# Altium schematic symbol library ARCOM_Memory.SchLib: 13 symbols
Pins are listed as number, name and electrical type; pins without a type are passive.

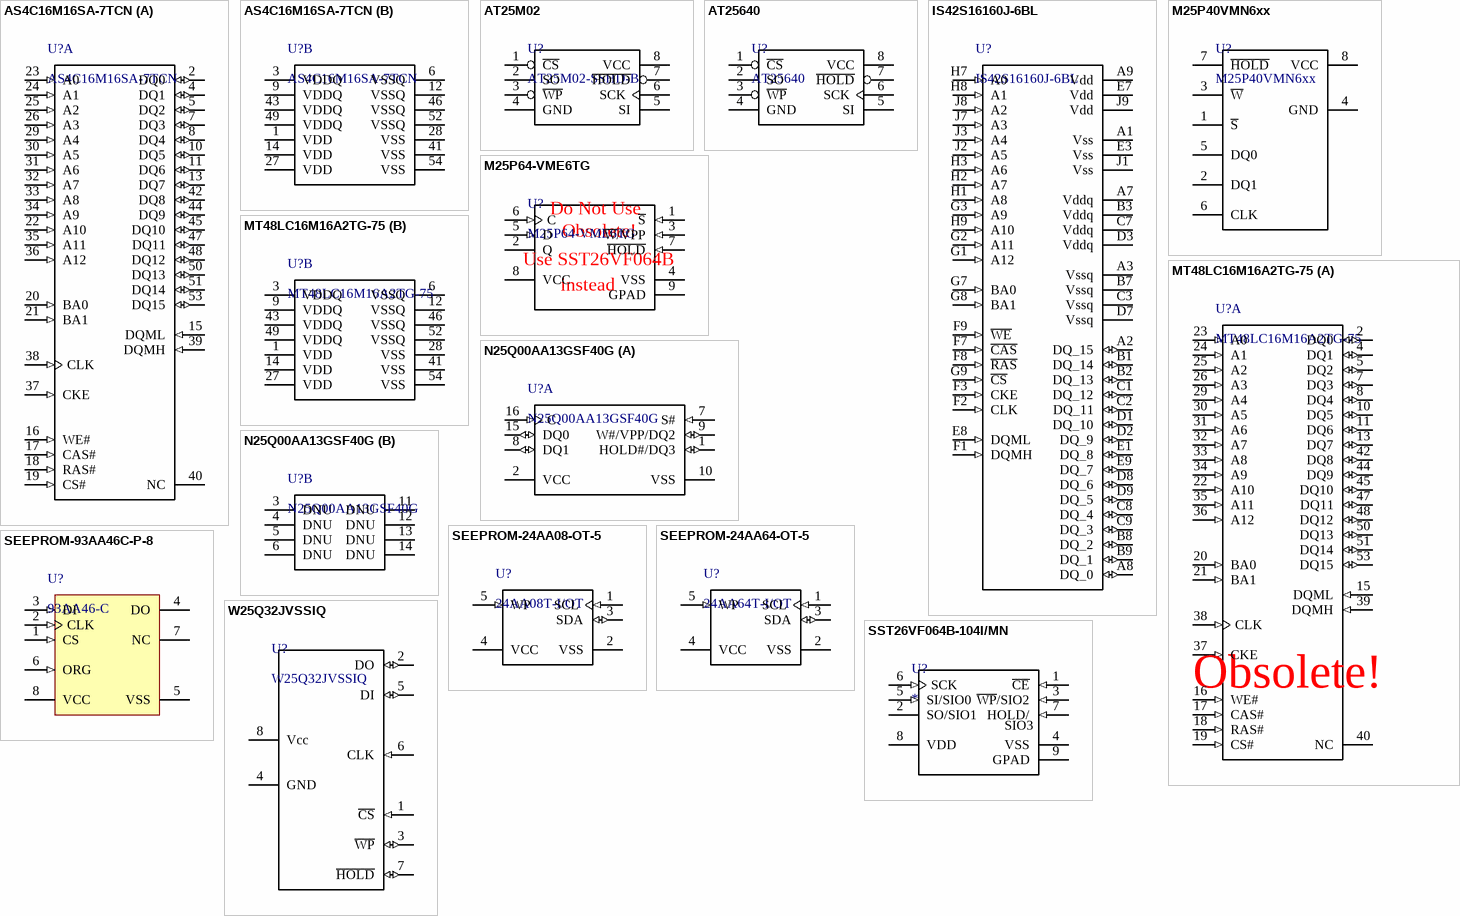
[diagram p0: symbols AS4C16M16SA-7TCN to W25Q32JVSSIQ]

## AS4C16M16SA-7TCN
designator U?
256 Mbit SDR SDRAM; Manufacturer: Alliance Memory; ComponentLink1Description: Manufacturer; ComponentLink1URL: http://www.alliancememory.com; ComponentLink2Description: Datasheet; ComponentLink2URL: http://www.alliancememory.com/pdf/dram/256M-AS4C16M16SA.pdf; Manufacturer P/N: AS4C16M16SA-7TCN; Part: AS4C16M16SA-7TCN
footprint MICT-TG-54_N (SOP, 54-Leads, Body 22.22x10.16mm, Pitch 0.8mm, IPC Medium Density)
part A pins: 2 DQ0 (io) "Data bus for x16 (pins 4, 7, 10, 13, 15, 42, 45, 48, and 51 are NC for x8; and pins 2, 4, 7, 8, 10, 13, 15, 42, 45, 47, 48, 51, and 53 are NC for x4).", 4 DQ1 (io) "Data bus for x16 (pins 4, 7, 10, 13, 15, 42, 45, 48, and 51 are NC for x8; and pins 2, 4, 7, 8, 10, 13, 15, 42, 45, 47, 48, 51, and 53 are NC for x4).", 5 DQ2 (io) "Data bus for x16 (pins 4, 7, 10, 13, 15, 42, 45, 48, and 51 are NC for x8; and pins 2, 4, 7, 8, 10, 13, 15, 42, 45, 47, 48, 51, and 53 are NC for x4).", 7 DQ3 (io) "Data bus for x16 (pins 4, 7, 10, 13, 15, 42, 45, 48, and 51 are NC for x8; and pins 2, 4, 7, 8, 10, 13, 15, 42, 45, 47, 48, 51, and 53 are NC for x4).", 8 DQ4 (io) "Data bus for x16 (pins 4, 7, 10, 13, 15, 42, 45, 48, and 51 are NC for x8; and pins 2, 4, 7, 8, 10, 13, 15, 42, 45, 47, 48, 51, and 53 are NC for x4).", 10 DQ5 (io) "Data bus for x16 (pins 4, 7, 10, 13, 15, 42, 45, 48, and 51 are NC for x8; and pins 2, 4, 7, 8, 10, 13, 15, 42, 45, 47, 48, 51, and 53 are NC for x4).", 11 DQ6 (io) "Data bus for x16 (pins 4, 7, 10, 13, 15, 42, 45, 48, and 51 are NC for x8; and pins 2, 4, 7, 8, 10, 13, 15, 42, 45, 47, 48, 51, and 53 are NC for x4).", 13 DQ7 (io) "Data bus for x16 (pins 4, 7, 10, 13, 15, 42, 45, 48, and 51 are NC for x8; and pins 2, 4, 7, 8, 10, 13, 15, 42, 45, 47, 48, 51, and 53 are NC for x4).", 15 DQML (in) "Onthe x16, DQML corresponds to DQ[7:0], and DQMH corresponds to DQ[15:8]. DQML andDQMH are considered same state when referenced as DQM", 16 WE# (in) "define the command being entered", 17 CAS# (in) "define the command being entered", 18 RAS# (in) "define the command being entered", 19 CS# (in) "CS# enables (registered LOW) and disables (registered HIGH) the command decoder. All commands are masked when CS# is registered HIGH, but READ/WRITE bursts already in progress will continue, and DQM operation will retain its (See Datasheet)", 20 BA0 (in) "BA[1:0] define to which bank the ACTIVE, READ, WRITE, or PRECHARGE command is being applied.", 21 BA1 (in) "BA[1:0] define to which bank the ACTIVE, READ, WRITE, or PRECHARGE command is being applied.", 22 A10 (in) "A[12:0] are sampled during the ACTIVE command (row address A[12:0]) andREAD or WRITE command (column address A[9:0], A11, and A12 for x4; A[9:0] and A11 for x8; A[9:0] for x16; with A10 defining auto precharge) to select one (See Datasheet)", 23 A0 (in) "A[12:0] are sampled during the ACTIVE command (row address A[12:0]) andREAD or WRITE command (column address A[9:0], A11, and A12 for x4; A[9:0] and A11 for x8; A[9:0] for x16; with A10 defining auto precharge) to select one (See Datasheet)", 24 A1 (in) "A[12:0] are sampled during the ACTIVE command (row address A[12:0]) andREAD or WRITE command (column address A[9:0], A11, and A12 for x4; A[9:0] and A11 for x8; A[9:0] for x16; with A10 defining auto precharge) to select one (See Datasheet)", 25 A2 (in) "A[12:0] are sampled during the ACTIVE command (row address A[12:0]) andREAD or WRITE command (column address A[9:0], A11, and A12 for x4; A[9:0] and A11 for x8; A[9:0] for x16; with A10 defining auto precharge) to select one (See Datasheet)", 26 A3 (in) "A[12:0] are sampled during the ACTIVE command (row address A[12:0]) andREAD or WRITE command (column address A[9:0], A11, and A12 for x4; A[9:0] and A11 for x8; A[9:0] for x16; with A10 defining auto precharge) to select one (See Datasheet)", 29 A4 (in) "A[12:0] are sampled during the ACTIVE command (row address A[12:0]) andREAD or WRITE command (column address A[9:0], A11, and A12 for x4; A[9:0] and A11 for x8; A[9:0] for x16; with A10 defining auto precharge) to select one (See Datasheet)", 30 A5 (in) "A[12:0] are sampled during the ACTIVE command (row address A[12:0]) andREAD or WRITE command (column address A[9:0], A11, and A12 for x4; A[9:0] and A11 for x8; A[9:0] for x16; with A10 defining auto precharge) to select one (See Datasheet)", 31 A6 (in) "A[12:0] are sampled during the ACTIVE command (row address A[12:0]) andREAD or WRITE command (column address A[9:0], A11, and A12 for x4; A[9:0] and A11 for x8; A[9:0] for x16; with A10 defining auto precharge) to select one (See Datasheet)", 32 A7 (in) "A[12:0] are sampled during the ACTIVE command (row address A[12:0]) andREAD or WRITE command (column address A[9:0], A11, and A12 for x4; A[9:0] and A11 for x8; A[9:0] for x16; with A10 defining auto precharge) to select one (See Datasheet)", 33 A8 (in) "A[12:0] are sampled during the ACTIVE command (row address A[12:0]) andREAD or WRITE command (column address A[9:0], A11, and A12 for x4; A[9:0] and A11 for x8; A[9:0] for x16; with A10 defining auto precharge) to select one (See Datasheet)", 34 A9 (in) "A[12:0] are sampled during the ACTIVE command (row address A[12:0]) andREAD or WRITE command (column address A[9:0], A11, and A12 for x4; A[9:0] and A11 for x8; A[9:0] for x16; with A10 defining auto precharge) to select one (See Datasheet)", 35 A11 (in) "A[12:0] are sampled during the ACTIVE command (row address A[12:0]) andREAD or WRITE command (column address A[9:0], A11, and A12 for x4; A[9:0] and A11 for x8; A[9:0] for x16; with A10 defining auto precharge) to select one (See Datasheet)", 36 A12 (in) "A[12:0] are sampled during the ACTIVE command (row address A[12:0]) andREAD or WRITE command (column address A[9:0], A11, and A12 for x4; A[9:0] and A11 for x8; A[9:0] for x16; with A10 defining auto precharge) to select one (See Datasheet)", 37 CKE (in) "CKE activates (HIGH) and deactivates (LOW) the CLK signal. Deactivating theclock provides precharge power-down and SELF REFRESH operation (all banks idle), activepower-down (row active in any bank), or CLOCK SUSPEND (See Datasheet)", 38 CLK (in) "CLK is driven by the system clock. All SDRAM input signals are sampled on the positive edge of CLK. CLK also increments the internal burst counter and controls the output registers", 39 DQMH (in) "Onthe x16, DQML corresponds to DQ[7:0], and DQMH corresponds to DQ[15:8]. DQML andDQMH are considered same state when referenced as DQM", 40 NC "These should be left unconnected", 42 DQ8 (io) "Data bus for x16 (pins 4, 7, 10, 13, 15, 42, 45, 48, and 51 are NC for x8; and pins 2, 4, 7, 8, 10, 13, 15, 42, 45, 47, 48, 51, and 53 are NC for x4).", 44 DQ9 (io) "Data bus for x16 (pins 4, 7, 10, 13, 15, 42, 45, 48, and 51 are NC for x8; and pins 2, 4, 7, 8, 10, 13, 15, 42, 45, 47, 48, 51, and 53 are NC for x4).", 45 DQ10 (io) "Data bus for x16 (pins 4, 7, 10, 13, 15, 42, 45, 48, and 51 are NC for x8; and pins 2, 4, 7, 8, 10, 13, 15, 42, 45, 47, 48, 51, and 53 are NC for x4).", 47 DQ11 (io) "Data bus for x16 (pins 4, 7, 10, 13, 15, 42, 45, 48, and 51 are NC for x8; and pins 2, 4, 7, 8, 10, 13, 15, 42, 45, 47, 48, 51, and 53 are NC for x4).", 48 DQ12 (io) "Data bus for x16 (pins 4, 7, 10, 13, 15, 42, 45, 48, and 51 are NC for x8; and pins 2, 4, 7, 8, 10, 13, 15, 42, 45, 47, 48, 51, and 53 are NC for x4).", 50 DQ13 (io) "Data bus for x16 (pins 4, 7, 10, 13, 15, 42, 45, 48, and 51 are NC for x8; and pins 2, 4, 7, 8, 10, 13, 15, 42, 45, 47, 48, 51, and 53 are NC for x4).", 51 DQ14 (io) "Data bus for x16 (pins 4, 7, 10, 13, 15, 42, 45, 48, and 51 are NC for x8; and pins 2, 4, 7, 8, 10, 13, 15, 42, 45, 47, 48, 51, and 53 are NC for x4).", 53 DQ15 (io) "Data bus for x16 (pins 4, 7, 10, 13, 15, 42, 45, 48, and 51 are NC for x8; and pins 2, 4, 7, 8, 10, 13, 15, 42, 45, 47, 48, 51, and 53 are NC for x4)."
part B pins: 1 VDD (power) "+3.3V +/-0.3V.", 3 VDDQ (power) "DQ power to the die for improved noise immunity", 6 VSSQ (power) "DQ ground to the die for improved noise immunity", 9 VDDQ (power) "DQ power to the die for improved noise immunity", 12 VSSQ (power) "DQ ground to the die for improved noise immunity", 14 VDD (power) "+3.3V +/-0.3V.", 27 VDD (power) "+3.3V +/-0.3V.", 28 VSS (power) "Ground", 41 VSS (power) "Ground", 43 VDDQ (power) "DQ power to the die for improved noise immunity", 46 VSSQ (power) "DQ ground to the die for improved noise immunity", 49 VDDQ (power) "DQ power to the die for improved noise immunity", 52 VSSQ (power) "DQ ground to the die for improved noise immunity", 54 VSS (power) "Ground"

## AT25M02
designator U?, comment AT25M02-SSHD-B
SPI Serial EEPROM 2-Mbit (262144 x 8); Manufacturer: Microchip; ComponentLink1URL: *; ComponentLink2Description: *; ComponentLink2URL: *; Family: Chip; Manufacturer P/N: AT25M02-SSHD-B; Part: AT25M02-SSHD-B
footprint MCHP-SOIC-SN8_N (SOIC, 8-Leads, Body 4.9x3.9mm, Pitch 1.27mm, IPC Medium Density)
pins: 1 ~{CS}, 2 SO, 3 ~{WP}, 4 GND, 5 SI, 6 SCK, 7 ~{HOLD}, 8 VCC

## AT25640
designator U?
SPI Serial EEPROM 64K; ComponentLink1Description: *; ComponentLink1URL: *; ComponentLink2Description: *; ComponentLink2URL: *; Family: *; Manufacturer: *; Manufacturer P/N: *; Part: *
pins: 1 ~{CS}, 2 SO, 3 ~{WP}, 4 GND, 5 SI, 6 SCK, 7 ~{HOLD}, 8 VCC

## IS42S16160J-6BL
designator U?
256Mb Synchronous DRAM; Manufacturer: ISSI, Inc.; Manufacturer P/N: IS42S16160J-6BL; ComponentLink1Description: Manufacturer; ComponentLink1URL: www.issi.com; ComponentLink2Description: Datasheet; ComponentLink2URL: https://www.issi.com/WW/pdf/42-45S83200J-16160J.pdf; Family: Chip; Part: IS42S16160J-6BL
footprint 54L TF-BGA_IS42S16160D-6BL(Primary)
pins: A1 Vss (power) "BA[1:0] define to which bank the ACTIVE, READ, WRITE, or PRECHARGE command is being applied.", A2 DQ_15 (io) "BA[1:0] define to which bank the ACTIVE, READ, WRITE, or PRECHARGE command is being applied.", A3 Vssq (power) "BA[1:0] define to which bank the ACTIVE, READ, WRITE, or PRECHARGE command is being applied.", A7 Vddq (power) "BA[1:0] define to which bank the ACTIVE, READ, WRITE, or PRECHARGE command is being applied.", A8 DQ_0 (io) "BA[1:0] define to which bank the ACTIVE, READ, WRITE, or PRECHARGE command is being applied.", A9 Vdd (power) "BA[1:0] define to which bank the ACTIVE, READ, WRITE, or PRECHARGE command is being applied.", B1 DQ_14 (io) "BA[1:0] define to which bank the ACTIVE, READ, WRITE, or PRECHARGE command is being applied.", B2 DQ_13 (io) "BA[1:0] define to which bank the ACTIVE, READ, WRITE, or PRECHARGE command is being applied.", B3 Vddq (power) "BA[1:0] define to which bank the ACTIVE, READ, WRITE, or PRECHARGE command is being applied.", B7 Vssq (power) "BA[1:0] define to which bank the ACTIVE, READ, WRITE, or PRECHARGE command is being applied.", B8 DQ_2 (io) "BA[1:0] define to which bank the ACTIVE, READ, WRITE, or PRECHARGE command is being applied.", B9 DQ_1 (io) "BA[1:0] define to which bank the ACTIVE, READ, WRITE, or PRECHARGE command is being applied.", C1 DQ_12 (io) "BA[1:0] define to which bank the ACTIVE, READ, WRITE, or PRECHARGE command is being applied.", C2 DQ_11 (io) "BA[1:0] define to which bank the ACTIVE, READ, WRITE, or PRECHARGE command is being applied.", C3 Vssq (power) "BA[1:0] define to which bank the ACTIVE, READ, WRITE, or PRECHARGE command is being applied.", C7 Vddq (power) "BA[1:0] define to which bank the ACTIVE, READ, WRITE, or PRECHARGE command is being applied.", C8 DQ_4 (io) "BA[1:0] define to which bank the ACTIVE, READ, WRITE, or PRECHARGE command is being applied.", C9 DQ_3 (io) "BA[1:0] define to which bank the ACTIVE, READ, WRITE, or PRECHARGE command is being applied.", D1 DQ_10 (io) "BA[1:0] define to which bank the ACTIVE, READ, WRITE, or PRECHARGE command is being applied.", D2 DQ_9 (io) "BA[1:0] define to which bank the ACTIVE, READ, WRITE, or PRECHARGE command is being applied.", D3 Vddq (power) "BA[1:0] define to which bank the ACTIVE, READ, WRITE, or PRECHARGE command is being applied.", D7 Vssq (power) "BA[1:0] define to which bank the ACTIVE, READ, WRITE, or PRECHARGE command is being applied.", D8 DQ_6 (io) "BA[1:0] define to which bank the ACTIVE, READ, WRITE, or PRECHARGE command is being applied.", D9 DQ_5 (io) "BA[1:0] define to which bank the ACTIVE, READ, WRITE, or PRECHARGE command is being applied.", E1 DQ_8 (io) "BA[1:0] define to which bank the ACTIVE, READ, WRITE, or PRECHARGE command is being applied.", E3 Vss (power) "BA[1:0] define to which bank the ACTIVE, READ, WRITE, or PRECHARGE command is being applied.", E7 Vdd (power) "BA[1:0] define to which bank the ACTIVE, READ, WRITE, or PRECHARGE command is being applied.", E8 DQML (in) "BA[1:0] define to which bank the ACTIVE, READ, WRITE, or PRECHARGE command is being applied.", E9 DQ_7 (io) "BA[1:0] define to which bank the ACTIVE, READ, WRITE, or PRECHARGE command is being applied.", F1 DQMH (in) "BA[1:0] define to which bank the ACTIVE, READ, WRITE, or PRECHARGE command is being applied.", F2 CLK (in) "BA[1:0] define to which bank the ACTIVE, READ, WRITE, or PRECHARGE command is being applied.", F3 CKE (in) "BA[1:0] define to which bank the ACTIVE, READ, WRITE, or PRECHARGE command is being applied.", F7 ~{CAS} (in) "define the command being entered", F8 ~{RAS} (in) "define the command being entered", F9 ~{WE} (in) "define the command being entered", G1 A12 (in) "A[12:0] are sampled during the ACTIVE command (row address A[12:0]) andREAD or WRITE command (column address A[9:0], A11, and A12 for x4; A[9:0] and A11 for x8; A[9:0] for x16; with A10 defining auto precharge) to select one (See Datasheet)", G2 A11 (in) "A[12:0] are sampled during the ACTIVE command (row address A[12:0]) andREAD or WRITE command (column address A[9:0], A11, and A12 for x4; A[9:0] and A11 for x8; A[9:0] for x16; with A10 defining auto precharge) to select one (See Datasheet)", G3 A9 (in) "A[12:0] are sampled during the ACTIVE command (row address A[12:0]) andREAD or WRITE command (column address A[9:0], A11, and A12 for x4; A[9:0] and A11 for x8; A[9:0] for x16; with A10 defining auto precharge) to select one (See Datasheet)", G7 BA0 (in) "BA[1:0] define to which bank the ACTIVE, READ, WRITE, or PRECHARGE command is being applied.", G8 BA1 (in) "BA[1:0] define to which bank the ACTIVE, READ, WRITE, or PRECHARGE command is being applied.", G9 ~{CS} (in) "CS# enables (registered LOW) and disables (registered HIGH) the command decoder. All commands are masked when CS# is registered HIGH, but READ/WRITE bursts already in progress will continue, and DQM operation will retain its (See Datasheet)", H1 A8 (in) "A[12:0] are sampled during the ACTIVE command (row address A[12:0]) andREAD or WRITE command (column address A[9:0], A11, and A12 for x4; A[9:0] and A11 for x8; A[9:0] for x16; with A10 defining auto precharge) to select one (See Datasheet)", H2 A7 (in) "A[12:0] are sampled during the ACTIVE command (row address A[12:0]) andREAD or WRITE command (column address A[9:0], A11, and A12 for x4; A[9:0] and A11 for x8; A[9:0] for x16; with A10 defining auto precharge) to select one (See Datasheet)", H3 A6 (in) "A[12:0] are sampled during the ACTIVE command (row address A[12:0]) andREAD or WRITE command (column address A[9:0], A11, and A12 for x4; A[9:0] and A11 for x8; A[9:0] for x16; with A10 defining auto precharge) to select one (See Datasheet)", H7 A0 (in) "A[12:0] are sampled during the ACTIVE command (row address A[12:0]) andREAD or WRITE command (column address A[9:0], A11, and A12 for x4; A[9:0] and A11 for x8; A[9:0] for x16; with A10 defining auto precharge) to select one (See Datasheet)", H8 A1 (in) "A[12:0] are sampled during the ACTIVE command (row address A[12:0]) andREAD or WRITE command (column address A[9:0], A11, and A12 for x4; A[9:0] and A11 for x8; A[9:0] for x16; with A10 defining auto precharge) to select one (See Datasheet)", H9 A10 (in) "A[12:0] are sampled during the ACTIVE command (row address A[12:0]) andREAD or WRITE command (column address A[9:0], A11, and A12 for x4; A[9:0] and A11 for x8; A[9:0] for x16; with A10 defining auto precharge) to select one (See Datasheet)", J1 Vss (power) "BA[1:0] define to which bank the ACTIVE, READ, WRITE, or PRECHARGE command is being applied.", J2 A5 (in) "A[12:0] are sampled during the ACTIVE command (row address A[12:0]) andREAD or WRITE command (column address A[9:0], A11, and A12 for x4; A[9:0] and A11 for x8; A[9:0] for x16; with A10 defining auto precharge) to select one (See Datasheet)", J3 A4 (in) "A[12:0] are sampled during the ACTIVE command (row address A[12:0]) andREAD or WRITE command (column address A[9:0], A11, and A12 for x4; A[9:0] and A11 for x8; A[9:0] for x16; with A10 defining auto precharge) to select one (See Datasheet)", J7 A3 (in) "A[12:0] are sampled during the ACTIVE command (row address A[12:0]) andREAD or WRITE command (column address A[9:0], A11, and A12 for x4; A[9:0] and A11 for x8; A[9:0] for x16; with A10 defining auto precharge) to select one (See Datasheet)", J8 A2 (in) "A[12:0] are sampled during the ACTIVE command (row address A[12:0]) andREAD or WRITE command (column address A[9:0], A11, and A12 for x4; A[9:0] and A11 for x8; A[9:0] for x16; with A10 defining auto precharge) to select one (See Datasheet)", J9 Vdd (power) "BA[1:0] define to which bank the ACTIVE, READ, WRITE, or PRECHARGE command is being applied."

## M25P40VMN6xx
designator U?
4 Mbit, Low Voltage, Serial Flash Memory with 40 MHz or 50 MHz SPI Bus Interface; Manufacturer: Micron Technology, Inc.; .Checked SCH: new; ComponentLink1Description: Manufacturer; ComponentLink1URL: *; ComponentLink2Description: Datasheet; ComponentLink2URL: *; Manufacturer P/N: M25P40VMN6xx; Part: M25P40VMN6xx; type: chip; .Checked PCB: new
footprint FLASH_8pin
pins: 1 ~{S}, 2 DQ1, 3 ~{W}, 4 GND, 5 DQ0, 6 CLK, 7 ~{HOLD}, 8 VCC

## M25P64-VME6TG
designator U?
Obsolete! Change to SST26VF064. 64 Mbit, low voltage, Serial Flash memory  with 75 MHz SPI bus interface; Manufacturer: Micron Technology, Inc.; ComponentLink1Description: Manufacturer; ComponentLink1URL: https://www.micron.com; ComponentLink2Description: Datasheet; ComponentLink2URL: http://www.micron.com/~/media/Documents/Products/Data%20Sheet/NOR%20Flash/Serial%20NOR/M25P/M25P64.pdf; Manufacturer P/N: M25P64-VME6TG; Part: M25P64-VME6TG
footprint VDFPN8_2
pins: 1 ~{S} (in) "When this input signal is High, the device is deselected and Serial Data Output (Q) is at highimpedance. Unless an internal Program, Erase or Write Status Register cycle is in progress,the device will be in the Standby Power (See Datasheet)", 2 Q (hiz) "This output signal is used to transfer data serially out of the device. Data is shifted out on the  falling edge of Serial Clock (C).", 3 ~{W}/VPP (in) "Write Protect/Enhanced Program supply voltage (W\/VPP) W\/VPP is both a control input and a power supply pin. The two functions are selected by the voltage range applied to the pin. If the W\/VPP input is kept in a low (See Datasheet)", 4 VSS (power) "VSS is the reference for the VCC supply voltage.", 5 D (in) "This input signal is used to transfer data serially into the device. It receives instructions,addresses, and the data to be programmed. Values are latched on the rising edge of SerialClock (C).", 6 C (in) "This input signal provides the timing of the serial interface. Instructions, addresses, or datapresent at Serial Data Input (D) are latched on the rising edge of Serial Clock (C). Data onSerial Data Output (Q) changes after (See Datasheet)", 7 ~{HOLD} (in) "The Hold (H\O\L\D\) signal is used to pause any serial communications with the device withoutdeselecting the device.During the Hold condition, the Serial Data Output (Q) is high impedance, and Serial DataInput (D) and Serial (See Datasheet)", 8 VCC (power) "VCC is the supply voltage.", 9 GPAD (power) "VSS is the reference for the VCC supply voltage."
text: Do Not Use; Obsolete!; Use SST26VF064B; instead

## MT48LC16M16A2TG-75
designator U?
Obsolete! Change to AS4C16M16SA-7TCN; Manufacturer: Micron Technology, Inc.; ComponentLink1Description: Manufacturer; ComponentLink1URL: http://www.micron.com/; ComponentLink2Description: Datasheet; ComponentLink2URL: http://www.micron.com/~/media/Documents/Products/Data%20Sheet/DRAM/256Mb_sdr.pdf; Manufacturer P/N: MT48LC16M16A2TG-75; Part: MT48LC16M16A2TG-75
footprint MICT-TG-54_N (SOP, 54-Leads, Body 22.22x10.16mm, Pitch 0.8mm, IPC Medium Density)
part A pins: 2 DQ0 (io) "Data bus for x16 (pins 4, 7, 10, 13, 15, 42, 45, 48, and 51 are NC for x8; and pins 2, 4, 7, 8, 10, 13, 15, 42, 45, 47, 48, 51, and 53 are NC for x4).", 4 DQ1 (io) "Data bus for x16 (pins 4, 7, 10, 13, 15, 42, 45, 48, and 51 are NC for x8; and pins 2, 4, 7, 8, 10, 13, 15, 42, 45, 47, 48, 51, and 53 are NC for x4).", 5 DQ2 (io) "Data bus for x16 (pins 4, 7, 10, 13, 15, 42, 45, 48, and 51 are NC for x8; and pins 2, 4, 7, 8, 10, 13, 15, 42, 45, 47, 48, 51, and 53 are NC for x4).", 7 DQ3 (io) "Data bus for x16 (pins 4, 7, 10, 13, 15, 42, 45, 48, and 51 are NC for x8; and pins 2, 4, 7, 8, 10, 13, 15, 42, 45, 47, 48, 51, and 53 are NC for x4).", 8 DQ4 (io) "Data bus for x16 (pins 4, 7, 10, 13, 15, 42, 45, 48, and 51 are NC for x8; and pins 2, 4, 7, 8, 10, 13, 15, 42, 45, 47, 48, 51, and 53 are NC for x4).", 10 DQ5 (io) "Data bus for x16 (pins 4, 7, 10, 13, 15, 42, 45, 48, and 51 are NC for x8; and pins 2, 4, 7, 8, 10, 13, 15, 42, 45, 47, 48, 51, and 53 are NC for x4).", 11 DQ6 (io) "Data bus for x16 (pins 4, 7, 10, 13, 15, 42, 45, 48, and 51 are NC for x8; and pins 2, 4, 7, 8, 10, 13, 15, 42, 45, 47, 48, 51, and 53 are NC for x4).", 13 DQ7 (io) "Data bus for x16 (pins 4, 7, 10, 13, 15, 42, 45, 48, and 51 are NC for x8; and pins 2, 4, 7, 8, 10, 13, 15, 42, 45, 47, 48, 51, and 53 are NC for x4).", 15 DQML (in) "Onthe x16, DQML corresponds to DQ[7:0], and DQMH corresponds to DQ[15:8]. DQML andDQMH are considered same state when referenced as DQM", 16 WE# (in) "define the command being entered", 17 CAS# (in) "define the command being entered", 18 RAS# (in) "define the command being entered", 19 CS# (in) "CS# enables (registered LOW) and disables (registered HIGH) the command decoder. All commands are masked when CS# is registered HIGH, but READ/WRITE bursts already in progress will continue, and DQM operation will retain its (See Datasheet)", 20 BA0 (in) "BA[1:0] define to which bank the ACTIVE, READ, WRITE, or PRECHARGE command is being applied.", 21 BA1 (in) "BA[1:0] define to which bank the ACTIVE, READ, WRITE, or PRECHARGE command is being applied.", 22 A10 (in) "A[12:0] are sampled during the ACTIVE command (row address A[12:0]) andREAD or WRITE command (column address A[9:0], A11, and A12 for x4; A[9:0] and A11 for x8; A[9:0] for x16; with A10 defining auto precharge) to select one (See Datasheet)", 23 A0 (in) "A[12:0] are sampled during the ACTIVE command (row address A[12:0]) andREAD or WRITE command (column address A[9:0], A11, and A12 for x4; A[9:0] and A11 for x8; A[9:0] for x16; with A10 defining auto precharge) to select one (See Datasheet)", 24 A1 (in) "A[12:0] are sampled during the ACTIVE command (row address A[12:0]) andREAD or WRITE command (column address A[9:0], A11, and A12 for x4; A[9:0] and A11 for x8; A[9:0] for x16; with A10 defining auto precharge) to select one (See Datasheet)", 25 A2 (in) "A[12:0] are sampled during the ACTIVE command (row address A[12:0]) andREAD or WRITE command (column address A[9:0], A11, and A12 for x4; A[9:0] and A11 for x8; A[9:0] for x16; with A10 defining auto precharge) to select one (See Datasheet)", 26 A3 (in) "A[12:0] are sampled during the ACTIVE command (row address A[12:0]) andREAD or WRITE command (column address A[9:0], A11, and A12 for x4; A[9:0] and A11 for x8; A[9:0] for x16; with A10 defining auto precharge) to select one (See Datasheet)", 29 A4 (in) "A[12:0] are sampled during the ACTIVE command (row address A[12:0]) andREAD or WRITE command (column address A[9:0], A11, and A12 for x4; A[9:0] and A11 for x8; A[9:0] for x16; with A10 defining auto precharge) to select one (See Datasheet)", 30 A5 (in) "A[12:0] are sampled during the ACTIVE command (row address A[12:0]) andREAD or WRITE command (column address A[9:0], A11, and A12 for x4; A[9:0] and A11 for x8; A[9:0] for x16; with A10 defining auto precharge) to select one (See Datasheet)", 31 A6 (in) "A[12:0] are sampled during the ACTIVE command (row address A[12:0]) andREAD or WRITE command (column address A[9:0], A11, and A12 for x4; A[9:0] and A11 for x8; A[9:0] for x16; with A10 defining auto precharge) to select one (See Datasheet)", 32 A7 (in) "A[12:0] are sampled during the ACTIVE command (row address A[12:0]) andREAD or WRITE command (column address A[9:0], A11, and A12 for x4; A[9:0] and A11 for x8; A[9:0] for x16; with A10 defining auto precharge) to select one (See Datasheet)", 33 A8 (in) "A[12:0] are sampled during the ACTIVE command (row address A[12:0]) andREAD or WRITE command (column address A[9:0], A11, and A12 for x4; A[9:0] and A11 for x8; A[9:0] for x16; with A10 defining auto precharge) to select one (See Datasheet)", 34 A9 (in) "A[12:0] are sampled during the ACTIVE command (row address A[12:0]) andREAD or WRITE command (column address A[9:0], A11, and A12 for x4; A[9:0] and A11 for x8; A[9:0] for x16; with A10 defining auto precharge) to select one (See Datasheet)", 35 A11 (in) "A[12:0] are sampled during the ACTIVE command (row address A[12:0]) andREAD or WRITE command (column address A[9:0], A11, and A12 for x4; A[9:0] and A11 for x8; A[9:0] for x16; with A10 defining auto precharge) to select one (See Datasheet)", 36 A12 (in) "A[12:0] are sampled during the ACTIVE command (row address A[12:0]) andREAD or WRITE command (column address A[9:0], A11, and A12 for x4; A[9:0] and A11 for x8; A[9:0] for x16; with A10 defining auto precharge) to select one (See Datasheet)", 37 CKE (in) "CKE activates (HIGH) and deactivates (LOW) the CLK signal. Deactivating theclock provides precharge power-down and SELF REFRESH operation (all banks idle), activepower-down (row active in any bank), or CLOCK SUSPEND (See Datasheet)", 38 CLK (in) "CLK is driven by the system clock. All SDRAM input signals are sampled on the positive edge of CLK. CLK also increments the internal burst counter and controls the output registers", 39 DQMH (in) "Onthe x16, DQML corresponds to DQ[7:0], and DQMH corresponds to DQ[15:8]. DQML andDQMH are considered same state when referenced as DQM", 40 NC "These should be left unconnected", 42 DQ8 (io) "Data bus for x16 (pins 4, 7, 10, 13, 15, 42, 45, 48, and 51 are NC for x8; and pins 2, 4, 7, 8, 10, 13, 15, 42, 45, 47, 48, 51, and 53 are NC for x4).", 44 DQ9 (io) "Data bus for x16 (pins 4, 7, 10, 13, 15, 42, 45, 48, and 51 are NC for x8; and pins 2, 4, 7, 8, 10, 13, 15, 42, 45, 47, 48, 51, and 53 are NC for x4).", 45 DQ10 (io) "Data bus for x16 (pins 4, 7, 10, 13, 15, 42, 45, 48, and 51 are NC for x8; and pins 2, 4, 7, 8, 10, 13, 15, 42, 45, 47, 48, 51, and 53 are NC for x4).", 47 DQ11 (io) "Data bus for x16 (pins 4, 7, 10, 13, 15, 42, 45, 48, and 51 are NC for x8; and pins 2, 4, 7, 8, 10, 13, 15, 42, 45, 47, 48, 51, and 53 are NC for x4).", 48 DQ12 (io) "Data bus for x16 (pins 4, 7, 10, 13, 15, 42, 45, 48, and 51 are NC for x8; and pins 2, 4, 7, 8, 10, 13, 15, 42, 45, 47, 48, 51, and 53 are NC for x4).", 50 DQ13 (io) "Data bus for x16 (pins 4, 7, 10, 13, 15, 42, 45, 48, and 51 are NC for x8; and pins 2, 4, 7, 8, 10, 13, 15, 42, 45, 47, 48, 51, and 53 are NC for x4).", 51 DQ14 (io) "Data bus for x16 (pins 4, 7, 10, 13, 15, 42, 45, 48, and 51 are NC for x8; and pins 2, 4, 7, 8, 10, 13, 15, 42, 45, 47, 48, 51, and 53 are NC for x4).", 53 DQ15 (io) "Data bus for x16 (pins 4, 7, 10, 13, 15, 42, 45, 48, and 51 are NC for x8; and pins 2, 4, 7, 8, 10, 13, 15, 42, 45, 47, 48, 51, and 53 are NC for x4)."
part B pins: 1 VDD (power) "+3.3V +/-0.3V.", 3 VDDQ (power) "DQ power to the die for improved noise immunity", 6 VSSQ (power) "DQ ground to the die for improved noise immunity", 9 VDDQ (power) "DQ power to the die for improved noise immunity", 12 VSSQ (power) "DQ ground to the die for improved noise immunity", 14 VDD (power) "+3.3V +/-0.3V.", 27 VDD (power) "+3.3V +/-0.3V.", 28 VSS (power) "Ground", 41 VSS (power) "Ground", 43 VDDQ (power) "DQ power to the die for improved noise immunity", 46 VSSQ (power) "DQ ground to the die for improved noise immunity", 49 VDDQ (power) "DQ power to the die for improved noise immunity", 52 VSSQ (power) "DQ ground to the die for improved noise immunity", 54 VSS (power) "Ground"
part A text: Obsolete!

## N25Q00AA13GSF40G
designator U?
1Gb, 3V, Multiple I/O Serial NOR Flash Memory; Manufacturer: Micron; ComponentLink1Description: *; ComponentLink1URL: *; ComponentLink2Description: Datasheet; ComponentLink2URL: http://www.micron.com/~/media/Documents/Products/Data%20Sheet/NOR%20Flash/Serial%20NOR/N25Q/n25q_1gb_3v_65nm.pdf; Manufacturer P/N: N25Q00AA13GSF40G; Family: *; Part: N25Q00AA13GSF40G
footprint MICT-SF-16_N (SOIC, 16-Leads, Body 10.3x7.5mm, Pitch 1.27mm, IPC Medium Density)
part A pins: 1 HOLD#/DQ3 (io) "HOLD: Pauses any serial communications with the device without deselecting the device. DQ1 (output) is High-Z. DQ0 (input) and the clock are "Don't Care." To enable HOLD, the device must be selected with S# driven LOW.HOLD# (See Datasheet)", 2 VCC (power) "Device core power supply: Source voltage.", 7 S# (in) "Chip select: When S# is HIGH, the device is deselected and DQ1 is at High-Z. When in extended SPI mode, with the device deselected, DQ1 is tri-stated. Unless an internal PROGRAM,ERASE, or WRITE STATUS REGISTER cycle is in (See Datasheet)", 8 DQ1 (io) "Serial data:Transfers data serially out of the device. Data is shifted out on the falling edge of the clock. DQ1 is used for input/output during the following operations: DUAL INPUT FAST PROGRAM, QUAD INPUT FAST PROGRAM, (See Datasheet)", 9 W#/VPP/DQ2 (io) "Write protect: W# can be used as a protection control input or in QIO-SPI operations. When in extended SPI with single or dual commands, the WRITE PROTECT function is selectable by the voltage range applied to the signal. If (See Datasheet)", 10 VSS (power) "Ground: Reference for the VCC supply voltage.", 15 DQ0 (io) "Serial data: Transfers data serially into the device. It receives command codes, addresses, and the data to be programmed. Values are latched on the rising edge of the clock. DQ0 is used for input/output during the following (See Datasheet)", 16 C (in) "Clock: Provides the timing of the serial interface. Commands, addresses, or data present at serial data inputs are latched on the rising edge of the clock. Data is shifted out on the falling edge of the clock."
part B pins: 3 DNU "Do not use.", 4 DNU "Do not use.", 5 DNU "Do not use.", 6 DNU "Do not use.", 11 DNU "Do not use.", 12 DNU "Do not use.", 13 DNU "Do not use.", 14 DNU "Do not use."

## SEEPROM-24AA08-OT-5
designator U?, comment 24AA08T-I/OT
8Kbit, 400kHz, 1.7V, I2C Serial EEPROM, 5-Pin SOT-23; Manufacturer: Microchip; ComponentLink1Description: Manufacturer; ComponentLink1URL: http://www.microchip.com; ComponentLink2Description: Datasheet; ComponentLink2URL: http://ww1.microchip.com/downloads/en/DeviceDoc/21710H.pdf; Manufacturer P/N: 24AA08T-I/OT; Part: 24AA08T-I/OT
footprint SOT23_MF05A_L (SOT23, 5-Leads, Body 2.9x1.6mm, Pitch 0.95mm, Lead Span 2.8mm, IPC High Density)
footprint SOT23_MF05A_M (SOT23, 5-Leads, Body 2.9x1.6mm, Pitch 0.95mm, Lead Span 2.8mm, IPC Low Density)
footprint SOT23_MF05A_N (SOT23, 5-Leads, Body 2.9x1.6mm, Pitch 0.95mm, Lead Span 2.8mm, IPC Medium Density)
pins: 1 SCL (in), 2 VSS (power), 3 SDA (io), 4 VCC (power), 5 WP (in)

## SEEPROM-24AA64-OT-5
designator U?, comment 24AA64T-I/OT
64Kbit, 400kHz, 1.7V, I2C Serial EEPROM, 5-Pin SOT-23; Manufacturer: Microchip; ComponentLink1Description: Manufacturer; ComponentLink1URL: http://www.microchip.com; ComponentLink2Description: Datasheet; ComponentLink2URL: http://ww1.microchip.com/downloads/en/DeviceDoc/21189R.pdf; Manufacturer P/N: 24AA64T-I/OT; Part: 24AA64T-I/OT
footprint SOT23_MF05A_L (SOT23, 5-Leads, Body 2.9x1.6mm, Pitch 0.95mm, Lead Span 2.8mm, IPC High Density)
footprint SOT23_MF05A_M (SOT23, 5-Leads, Body 2.9x1.6mm, Pitch 0.95mm, Lead Span 2.8mm, IPC Low Density)
footprint SOT23_MF05A_N (SOT23, 5-Leads, Body 2.9x1.6mm, Pitch 0.95mm, Lead Span 2.8mm, IPC Medium Density)
pins: 1 SCL (in), 2 VSS (power), 3 SDA (io), 4 VCC (power), 5 WP (in)

## SEEPROM-93AA46C-P-8
designator U?, comment 93AA46-C
1K, 128x8 or 64x16-bit, 1.8V Microwire Serial EEPROM, 8-Pin SOIC 150mil; Manufacturer: Microchip; Manufacturer P/N: 93AA46C-I/SN; ComponentLink1Description: Manufacturer; ComponentLink1URL: http://www.microchip.com; ComponentLink2Description: Datasheet; ComponentLink2URL: http://ww1.microchip.com/downloads/en/DeviceDoc/20001749K.pdf; Part: 93AA46C-I/SN
footprint SOIC_8_1.27_L (SOIC, 8-Leads, Body 4.89x3.9mm, Pitch 1.27mm, IPC High Density)
footprint SOIC_8_1.27_M (SOIC, 8-Leads, Body 4.89x3.9mm, Pitch 1.27mm, IPC Low Density)
footprint SOIC_8_1.27_N (SOIC, 8-Leads, Body 4.89x3.9mm, Pitch 1.27mm, IPC Medium Density)
pins: 1 CS (in), 2 CLK (in), 3 DI (in), 4 DO (hiz), 5 VSS (power), 6 ORG (in), 7 NC, 8 VCC (power)

## SST26VF064B-104I/MN
designator U?
64Mbit Serial Quad I/O (SQI) Flash Memory, 2.5V/3.0V; Manufacturer: Microchip; Manufacturer P/N: SST26VF064B-104I/MN; ComponentLink1Description: Manufacturer; ComponentLink1URL: https://www.microchip.com/; ComponentLink2Description: Datasheet; ComponentLink2URL: http://ww1.microchip.com/downloads/en/DeviceDoc/SST26VF064B-SST26VF064BA-Serial-Quad-IO-SQI-Flash-Memory-Data-Sheet-DS20005119H.pdf; Family: Chip; Part: SST26VF064B-104I/MN
footprint VDFPN8_2
pins: 1 ~{CE} (in) "When this input signal is High, the device is deselected and Serial Data Output (Q) is at highimpedance. Unless an internal Program, Erase or Write Status Register cycle is in progress,the device will be in the Standby Power (See Datasheet)", 2 SO/SIO1 (hiz) "This output signal is used to transfer data serially out of the device. Data is shifted out on the  falling edge of Serial Clock (C).", 3 ~{WP}/SIO2 (in) "Write Protect/Enhanced Program supply voltage (W\/VPP) W\/VPP is both a control input and a power supply pin. The two functions are selected by the voltage range applied to the pin. If the W\/VPP input is kept in a low (See Datasheet)", 4 VSS (power) "VSS is the reference for the VCC supply voltage.", 5 SI/SIO0 (in) "This input signal is used to transfer data serially into the device. It receives instructions,addresses, and the data to be programmed. Values are latched on the rising edge of SerialClock (C).", 6 SCK (in) "This input signal provides the timing of the serial interface. Instructions, addresses, or datapresent at Serial Data Input (D) are latched on the rising edge of Serial Clock (C). Data onSerial Data Output (Q) changes after (See Datasheet)", 7 HOLD/ (in) "The Hold (H\O\L\D\) signal is used to pause any serial communications with the device withoutdeselecting the device.During the Hold condition, the Serial Data Output (Q) is high impedance, and Serial DataInput (D) and Serial (See Datasheet)", 8 VDD (power) "VCC is the supply voltage.", 9 GPAD (power) "VSS is the reference for the VCC supply voltage."
text: SIO3

## W25Q32JVSSIQ
designator U?
3V 32M-BIT SERIAL FLASH MEMORY WITH  DUAL, QUAD SPI; Manufacturer: Winbond; Manufacturer P/N: W25Q32JVSSIQ; Family: Chip; Part: W25Q32JVSSIQ; ComponentLink1Description: Manufacturer; ComponentLink1URL: https://www.winbond.com/; ComponentLink2Description: Datasheet; ComponentLink2URL: https://static.chipdip.ru/lib/926/DOC012926248.pdf
footprint SOIC_8_1.27_M (SOIC, 8-Leads, Body 4.89x3.9mm, Pitch 1.27mm, IPC Low Density)
pins: 1 ~{CS} (in), 2 DO (io), 3 ~{WP} (io), 4 GND, 5 DI (io), 6 CLK (in), 7 ~{HOLD} (io), 8 Vcc